# Altium footprint library SeniorProject.PcbLib: 1 footprints
Each footprint in its own frame and in the unit in brackets; x right, y up, seen from the top. Pads: shape width x height; smd on the part's side, far side on the other; paste and mask are expansions set on the pad; w line width, h text height; cw(c..) or ccw(c..) is an arc to the next point about the centre after c.
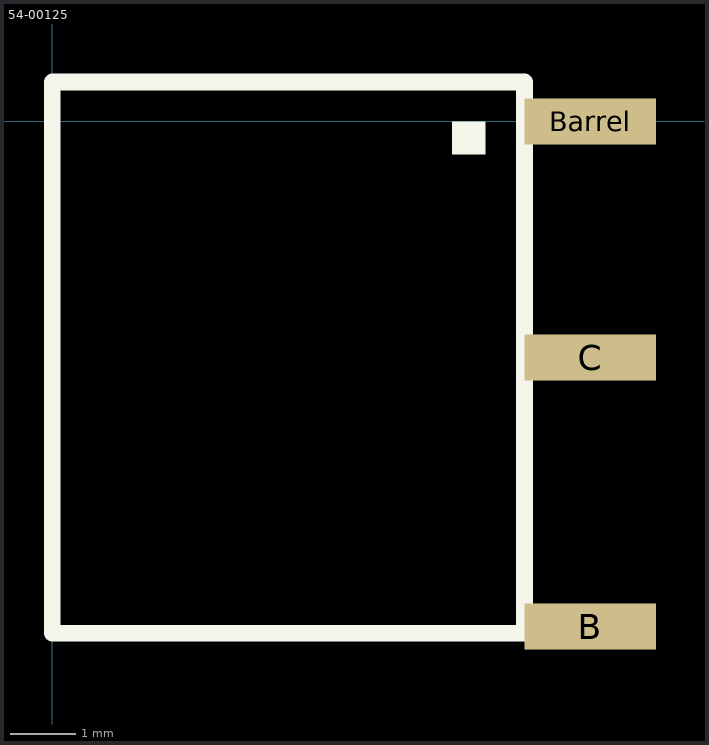
[diagram p0: the footprint, top view; thin cyan lines are the x and y axes]

## 54-00125 [mm] "3.5x1.1mm Barrel Jack Connector"
pads (3):
  rect 2x0.7 smd: B(8.2,-7.7) Barrel(8.2,0) C(8.2,-3.6)
Top Overlay:
  rectangle: 6.096,-0.508 6.604,0
  lines w0.254: 0,-7.8 1.8,-7.8 5.4,-7.8 7.2,-7.8 7.2,0.6 0,0.6 0,-7.8